# Altium footprint library CAP 0805_2012.PCBLIB: 1 footprints
Each footprint in its own frame and in the unit in brackets; x right, y up, seen from the top. Pads: shape width x height; smd on the part's side, far side on the other; paste and mask are expansions set on the pad; w line width, h text height; cw(c..) or ccw(c..) is an arc to the next point about the centre after c.
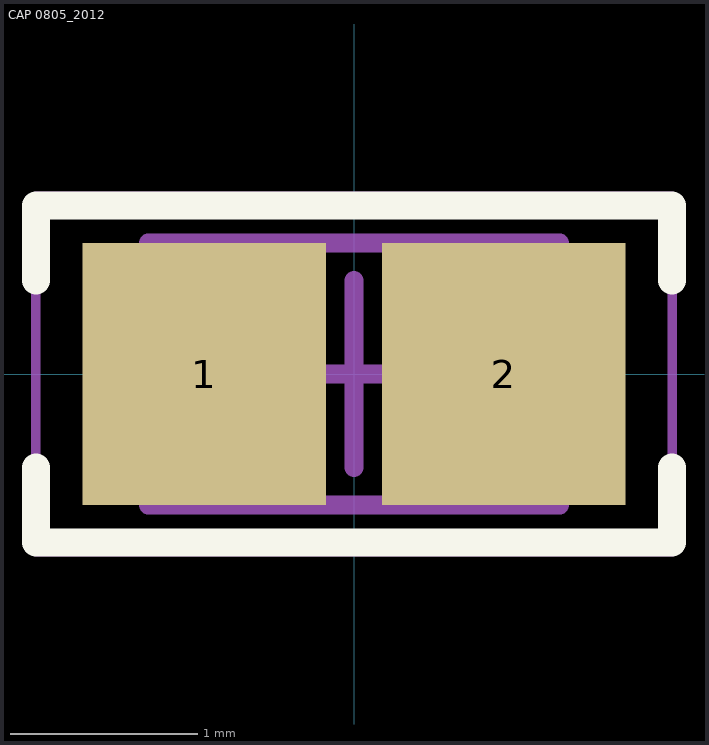
[diagram p0: the footprint, top view; thin cyan lines are the x and y axes]

## CAP 0805_2012 [mm] "Chip Capacitor, 2-Leads, Body 2.00x1.20mm, IPC Medium Density"
height 1.15
pads (2):
  rect 1.3x1.4 smd: 1(-0.8,0) 2(0.8,0)
Top Overlay:
  lines w0.15: -1.7,-0.5 -1.7,-0.9 1.7,-0.9 1.7,-0.5 ; -1.7,0.5 -1.7,0.9 1.7,0.9 1.7,0.5
Mechanical 13:
  lines w0.1: -1.1,-0.7 -1.1,0.7 1.1,0.7 1.1,-0.7 -1.1,-0.7
Mechanical 15:
  lines w0.05: -1.7,-0.95 -1.7,0.95 1.7,0.95 1.7,-0.95 -1.7,-0.95
  lines w0.1: -0.5,0 0.5,0 ; 0,-0.5 0,0.5
3D body "0805 cap.STEP": height 1.26, standoff -0.02, extent -1,-0.637 1,0.637